# EAGLE library part 18-WAY (library pimoroni-headers)
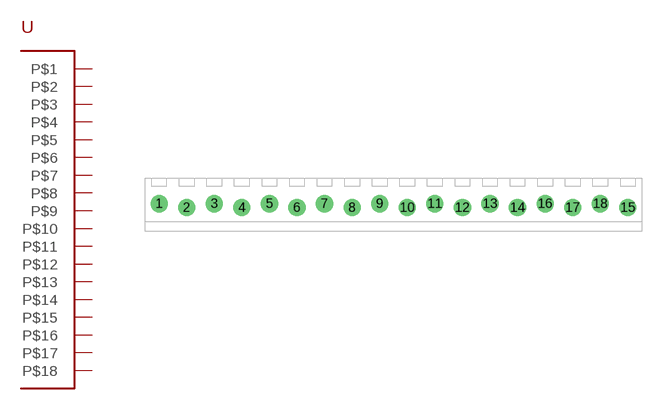
[diagram p19: symbol with the pads of 1X18-3.5MM-SCREWTERMINAL; footprint 1X18-3.5MM-SCREWTERMINAL]

Designator prefix -

## 18-WAY  [1X18-3.5MM-SCREWTERMINAL]
1  P$1
2  P$2
3  P$3
4  P$4
5  P$5
6  P$6
7  P$7
8  P$8
9  P$9
10  P$10
11  P$11
12  P$12
13  P$13
14  P$14
15  P$15
16  P$16
17  P$17
18  P$18

## Footprint 1X18-3.5MM-SCREWTERMINAL (pad centres in mm)
drill 1.3 pad 2.184: 1 -29.75,0.25; 2 -26.25,-0.25; 3 -22.75,0.25; 4 -19.25,-0.25; 5 -15.75,0.25; 6 -12.25,-0.25; 7 -8.75,0.25; 8 -5.25,-0.25; 9 -1.75,0.25; 10 1.75,-0.25; 11 5.25,0.25; 12 8.75,-0.25; 13 12.25,0.25; 14 15.75,-0.25; 15 29.75,-0.25; 16 19.25,0.25; 17 22.75,-0.25; 18 26.25,0.25